# EAGLE library part TPS61202 (library Messstation)
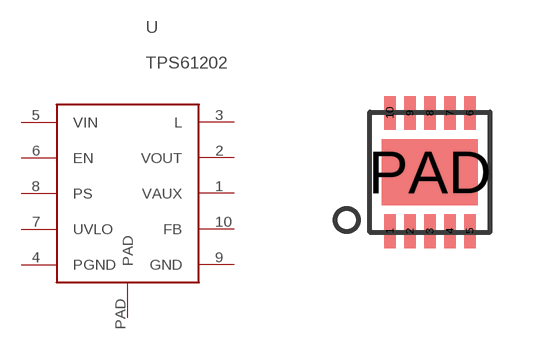
[diagram p4: symbol with the pads of VSON10; footprint VSON10]

Designator prefix U

## TPS61202  [VSON10]
1  VAUX
2  VOUT
3  L
4  PGND
5  VIN
6  EN
7  UVLO
8  PS
9  GND
10  FB
PAD  PAD

## Footprint VSON10 (pad centres in mm)
smd 0.28 x 0.85: 1 0,0; 2 0.5,0; 3 1,0; 4 1.5,0; 5 2,0; 6 2,2.95; 7 1.5,2.95; 8 1,2.95; 9 0.5,2.95; 10 0,2.95
smd 2.4 x 1.65: PAD 1,1.475